# EAGLE library part CON-MOLEX_43045-0800 (library MotorDriver)
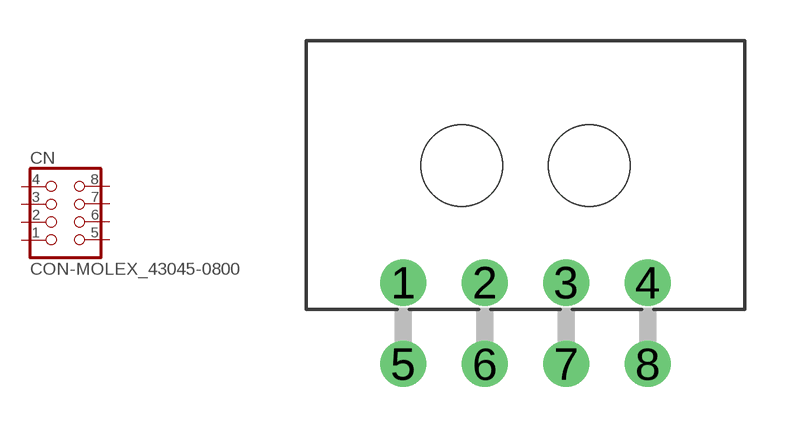
[diagram p3: symbol with the pads of CON-MOLEX_43045-0800; footprint CON-MOLEX_43045-0800]

Designator prefix CN

## CON-MOLEX_43045-0800  [CON-MOLEX_43045-0800]
1  1  pas
2  2  pas
3  3  pas
4  4  pas
5  5  pas
6  6  pas
7  7  pas
8  8  pas

## Footprint CON-MOLEX_43045-0800 (pad centres in mm)
drill 1.1 pad 1.7: 1 -4.5,-4.32; 2 -1.5,-4.32; 3 1.5,-4.32; 4 4.5,-4.32; 5 -4.5,-7.32; 6 -1.5,-7.32; 7 1.5,-7.32; 8 4.5,-7.32
hole 3 at 2.35,0
hole 3 at -2.35,0